# Altium footprint library Omron B3U-1000P_SW.PcbLib: 1 footprints
Each footprint in its own frame and in the unit in brackets; x right, y up, seen from the top. Pads: shape width x height; smd on the part's side, far side on the other; paste and mask are expansions set on the pad; w line width, h text height; cw(c..) or ccw(c..) is an arc to the next point about the centre after c.
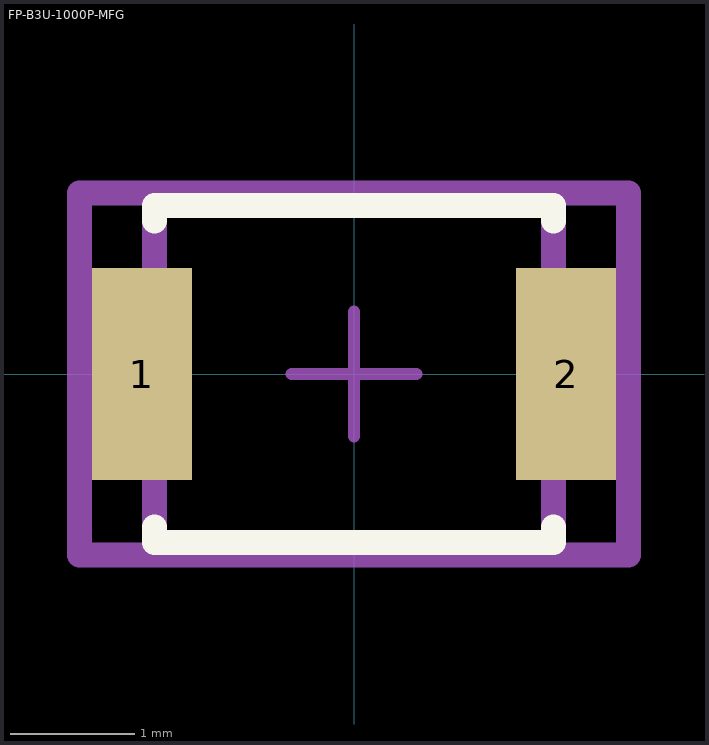
[diagram p0: the footprint, top view; thin cyan lines are the x and y axes]

## FP-B3U-1000P-MFG [mm]
pads (2):
  rect 0.8x1.7 smd paste+0 mask+0: 1(-1.7,0) 2(1.7,0)
Top Overlay:
  lines w0.2: -1.6,-1.225 -1.6,-1.35 1.6,-1.35 1.6,-1.225 ; -1.6,1.225 -1.6,1.35 1.6,1.35 1.6,1.225
Top Assembly:
  lines w0.2: -2.2,-1.45 -2.2,1.45 2.2,1.45 2.2,-1.45 -2.2,-1.45
  text ".Designator" at 0,0.188 h1
Top 3D Body:
  lines w0.2: -1.6,-1.35 -1.6,1.35 1.6,1.35 1.6,-1.35 -1.6,-1.35
Top Courtyard:
  lines w0.2: -2.2,-1.45 -2.2,1.45 2.2,1.45 2.2,-1.45 -2.2,-1.45
Top Component Center:
  lines w0.1: -0.5,0 0.5,0 ; 0,-0.5 0,0.5
3D body "Switch_Omron_B3U-1000P_eec.STEP": height 0.25, standoff 0, extent -2.2,-1.45 2.2,1.45